# Altium integrated library RB_Integrated_Library.IntLib: 21 symbols
Pins are listed as number, name and electrical type; pins without a type are passive.

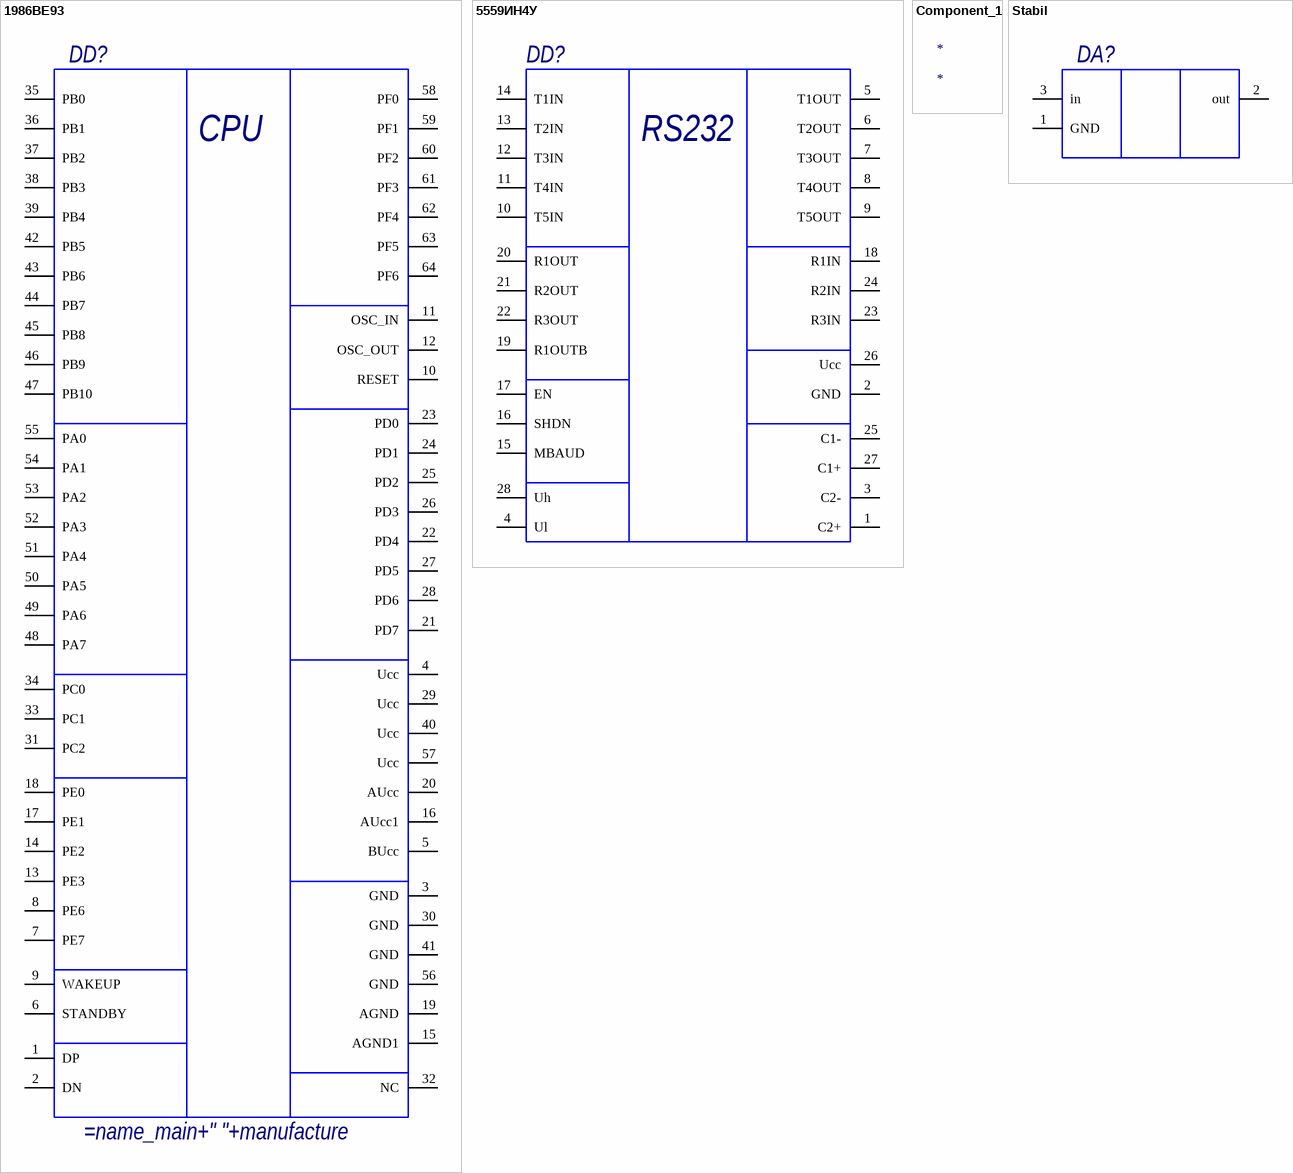
[diagram p0: symbols 1986ВЕ93 to Stabil]

## 1986ВЕ93
designator DD?
Микроконтроллер; manufacture: АЕЯР.431290.711ТУ; name: Микросхемы; name_main: 1986ВЕ93У
pins: 1 DP, 2 DN, 3 GND, 4 Ucc, 5 BUcc, 6 STANDBY, 7 PE7, 8 PE6, 9 WAKEUP, 10 RESET, 11 OSC_IN, 12 OSC_OUT, 13 PE3, 14 PE2, 15 AGND1, 16 AUcc1, 17 PE1, 18 PE0, 19 AGND, 20 AUcc, 21 PD7, 22 PD4, 23 PD0, 24 PD1, 25 PD2, 26 PD3, 27 PD5, 28 PD6, 29 Ucc, 30 GND, 31 PC2, 32 NC, 33 PC1, 34 PC0, 35 PB0, 36 PB1, 37 PB2, 38 PB3, 39 PB4, 40 Ucc, 41 GND, 42 PB5, 43 PB6, 44 PB7, 45 PB8, 46 PB9, 47 PB10, 48 PA7, 49 PA6, 50 PA5, 51 PA4, 52 PA3, 53 PA2, 54 PA1, 55 PA0, 56 GND, 57 Ucc, 58 PF0, 59 PF1, 60 PF2, 61 PF3, 62 PF4, 63 PF5, 64 PF6
text: CPU

## 5559ИН4У
designator DD?
Приемопередатчик RS232; manufacture: АЕЯР.431230.460ТУ; name: Микросхемы; name_main: 5559ИН4У
pins: 1 C2+, 2 GND, 3 C2-, 4 Ul, 5 T1OUT, 6 T2OUT, 7 T3OUT, 8 T4OUT, 9 T5OUT, 10 T5IN, 11 T4IN, 12 T3IN, 13 T2IN, 14 T1IN, 15 MBAUD, 16 SHDN, 17 EN, 18 R1IN, 19 R1OUTB, 20 R1OUT, 21 R2OUT, 22 R3OUT, 23 R3IN, 24 R2IN, 25 C1-, 26 Ucc, 27 C1+, 28 Uh
text: RS232

## Component_1
designator *

## Stabil
designator DA?
manufacture: АЕЯР.431420.638ТУ; name: Микросхемы; name_main: 1303ЕН3.3П
pins: 1 GND, 2 out, 3 in


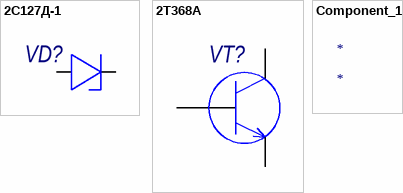
[diagram p1: symbols 2С127Д-1 to Component_1]

## 2С127Д-1
designator VD?
manufacture: аА0.339.092ТУ; Name: Стабилитрон; Name_main: 2С127Д-1
pins: 1, 2

## 2Т368А
designator VT?
NPN транзистор; manufacture: аА0.339.092ТУ; Name_main: 2Т368А; Name: Транзистор
pins: 1, 2, 3

## Component_1
designator *


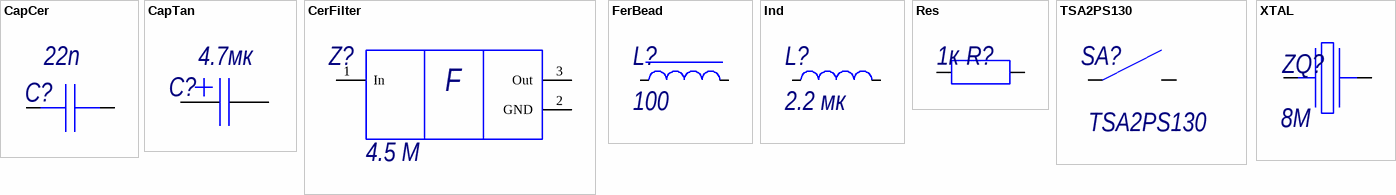
[diagram p2: symbols CapCer to XTAL]

## CapCer
designator C?  value 22п
Керамический конденсатор; manufacture: ОЖО.460.174ТУ; Tolerance: 5%; nameSuf: -2; name_main: К10-47-МПО-; Units: Ф; Name: Керамический конденсатор
simulation model CAP (Capacitor)
signal-integrity model Cap
footprint CAPC1005X06N (0402) (Chip Capacitor, 2-Leads, Body 1.00x0.50mm, IPC Medium Density)
footprint CAPC1608X09N (0603) (Chip Capacitor, 2-Leads, Body 1.60x0.80mm, IPC Medium Density)
footprint CAPC2012X13N (0805) (Chip Capacitor, 2-Leads, Body 2.00x1.25mm, IPC Medium Density)
pins: 1, 2

## CapTan
designator C?  value 4.7мк
Танталовый конденсатор; manufacture: АЖЯР.673546.004ТУ; Tolerance: 20%; name_main: К53-65-6,3В-; Units: Ф; Name: Танталовый конденсатор
simulation model CAP (Capacitor)
signal-integrity model Cap Pol
footprint CAPCP3216X16N (A) (Chip Capacitor, 2-Leads, Body 3.20x1.60mm, IPC Medium Density)
footprint CAPCP3528X22N (B) (Chip Capacitor, 2-Leads, Body 3.50x2.80mm, IPC Medium Density)
pins: 1, 2
1 alternate drawing of the same symbol

## CerFilter
designator Z?, comment value 4.5 М  (hidden comment: 4.5 МГц)
Керамический фильтр; Units: Гц; Name: Керамический фильтр
footprint LT...MB
footprint LTSH
pins: 1 In, 2 GND, 3 Out
text: F

## FerBead
designator L?, comment value 100  (hidden comment: 100Ом)
Дроссель; Units: Ом; Name: Дроссель
footprint INDC1608X09N (0603) (Chip Inductor, 2-Leads, Body 1.60x0.80mm, IPC Medium Density)
footprint INDC2012X14N (0805) (Chip Inductor, 2-Leads, Body 2.00x1.25mm, IPC Medium Density)
pins: 1, 2

## Ind
designator L?, comment value 2.2 мк  (hidden comment: 2.2 мкГн)
Катушка индуктивности; Units: Гн; Name: Катушка индуктивности
footprint INDC1608X09N (0603) (Chip Inductor, 2-Leads, Body 1.60x0.80mm, IPC Medium Density)
footprint INDC2012X14N (0805) (Chip Inductor, 2-Leads, Body 2.00x1.25mm, IPC Medium Density)
footprint INDP2117X10N (Precision Wire Wound Inductor, 2-Leads, Body 2.05x1.65mm, IPC Medium Density)
pins: 1, 2

## Res
designator R?  value 1к
Резистор; Tolerance: 5%; name_main: Р1-12-0,125-; Units: Ом; nameSuf: -М; Name: Резистор
simulation model RESISTOR (Resistor)
signal-integrity model Res
footprint RESC1005X03N (0402) (Chip Resistor, 2-Leads, Body 1.00x0.50mm, IPC Medium Density)
footprint RESC1608X05N (0603) (Footprint not found)
footprint RESC2113X05N (0805) (Chip Resistor, 2-Leads, Body 2.10x1.30mm, IPC Medium Density)
pins: 1, 2

## TSA2PS130
designator SA?
Кнопка тактовая; Name: Кнопка тактовая; Value: TSA2PS130
footprint 0650HIM-130G-G (tact switches 0650)
footprint IT-1102S (6x6 Tact Switch)
pins: 1, 2

## XTAL
designator ZQ?  value 8М
Кварцевый резонатор; manufacture: ТУ6321-005-07614320-97; Units: Гц; name_main: РК426-П-8ДТ-8000К; Name: Кварцевый резонатор
simulation model XTAL (Spice Subcircuit)
footprint HC49-S
footprint HC-49SM (Aluminum Electrolytic Capacitor, Body 11.40x4.50x5.00mm, IPC Low Density)
pins: 1 OSC1, 2 OSC2


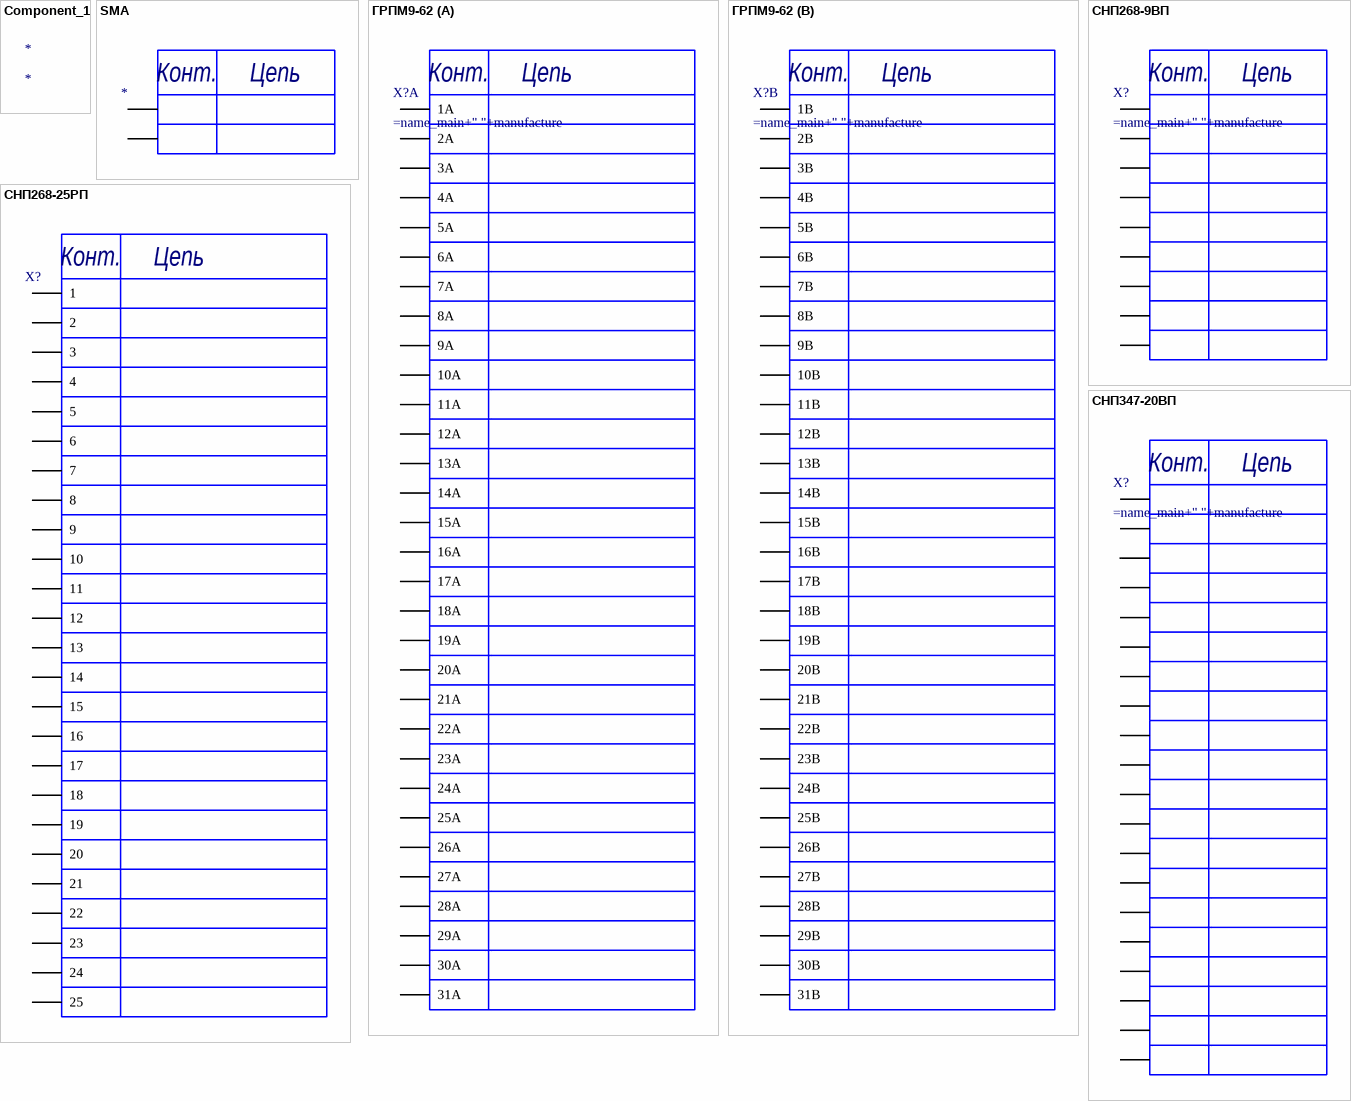
[diagram p3: symbols Component_1 to СНП347-20ВП]

## Component_1
designator *

## SMA
designator *
manufacture: Чип&Дип; name: Разъемы; name_main: HYR-1149
pins: 1, 2
text: Конт.; Цепь

## ГРПМ9-62
designator X?
manufacture: Ке0.364.009ТУ; name: Разъемы; name_main: ГРПМ9-62ШУ2-В
part A pins: 1A, 2A, 3A, 4A, 5A, 6A, 7A, 8A, 9A, 10A, 11A, 12A, 13A, 14A, 15A, 16A, 17A, 18A, 19A, 20A, 21A, 22A, 23A, 24A, 25A, 26A, 27A, 28A, 29A, 30A, 31A
part B pins: 1B, 2B, 3B, 4B, 5B, 6B, 7B, 8B, 9B, 10B, 11B, 12B, 13B, 14B, 15B, 16B, 17B, 18B, 19B, 20B, 21B, 22B, 23B, 24B, 25B, 26B, 27B, 28B, 29B, 30B, 31B
part A text: Конт.; Цепь
part B text: Конт.; Цепь

## СНП268-9ВП
designator X?
manufacture: БСАР.430420.014ТУ; name: Разъемы; name_main: СНП268-9ВП32-1-4-В
pins: 1, 2, 3, 4, 5 (power), 6, 7, 8, 9
text: Конт.; Цепь

## СНП268-25РП
designator X?
manufacture: БСАР.430420.014ТУ; name: Разъемы; name_main: СНП268-25РП32-1-4-В
pins: 1, 2, 3, 4, 5, 6, 7, 8, 9, 10, 11, 12, 13, 14, 15, 16, 17, 18, 19, 20, 21, 22, 23, 24, 25
text: Конт.; Цепь

## СНП347-20ВП
designator X?
manufacture: РЮМК.430420.012ТУ; name: Разъемы; name_main: СНП347-20ВП22-В
pins: 1, 2, 3, 4, 5, 6, 7, 8, 9, 10, 11, 12, 13, 14, 15, 16, 17, 18, 19, 20
text: Конт.; Цепь